# Altium schematic symbol library BB-HEADER-P19-P36.SchLib: 1 symbol
Pins are listed as number, name and electrical type; pins without a type are passive.

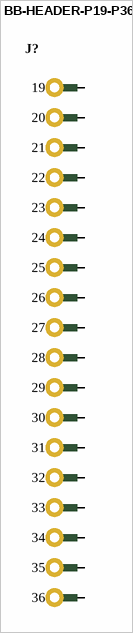
[diagram p0: symbol BB-HEADER-P19-P36]

## BB-HEADER-P19-P36
designator J?  (value not drawn)
BB Header, Vertical, Male, 0.1", 2.54mm, P19-P36
pins: 19, 20, 21, 22, 23, 24, 25, 26, 27, 28, 29, 30, 31, 32, 33, 34, 35, 36